# EAGLE library part GELE.TMP_CON_HEADER_1X20 (library Board_v.03b)
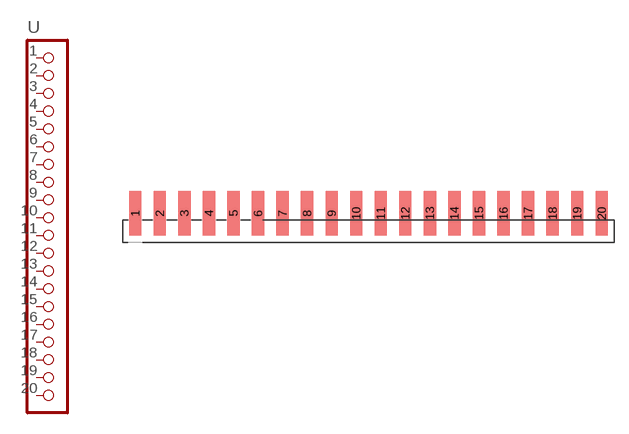
[diagram p0: symbol with the pads of GELE.TMP_M1X20_SMD_2.54MM/0.1"_LONGTRACKS; footprint GELE.TMP_M1X20_SMD_2.54MM/0.1"_LONGTRACKS]

Designator prefix -

## GELE.TMP_CON_HEADER_1X20  [GELE.TMP_M1X20_SMD_2.54MM/0.1"_LONGTRACKS]
1  1  pas
2  2  pas
3  3  pas
4  4  pas
5  5  pas
6  6  pas
7  7  pas
8  8  pas
9  9  pas
10  10  pas
11  11  pas
12  12  pas
13  13  pas
14  14  pas
15  15  pas
16  16  pas
17  17  pas
18  18  pas
19  19  pas
20  20  pas

## Footprint GELE.TMP_M1X20_SMD_2.54MM/0.1"_LONGTRACKS (pad centres in mm)
smd 1.27 x 4.572: 1 -24.13,0.573; 2 -21.59,0.573; 3 -19.05,0.573; 4 -16.51,0.573; 5 -13.97,0.573; 6 -11.43,0.573; 7 -8.89,0.573; 8 -6.35,0.573; 9 -3.81,0.573; 10 -1.27,0.573; 11 1.27,0.573; 12 3.81,0.573; 13 6.35,0.573; 14 8.89,0.573; 15 11.43,0.573; 16 13.97,0.573; 17 16.51,0.573; 18 19.05,0.573; 19 21.59,0.573; 20 24.13,0.573